# EAGLE library part AS-ITM-00162 (library tinycircuits)
IC REG BOOST 12V 0.12A 8SOIC
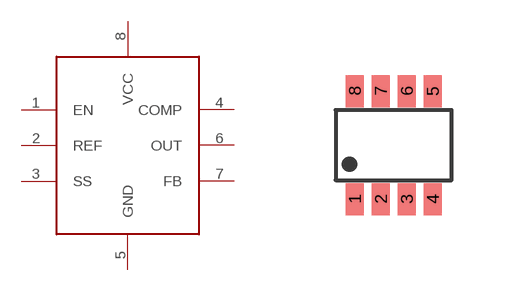
[diagram p73: symbol with the pads of R-PDSO-G8; footprint R-PDSO-G8]

Designator prefix -

## AS-ITM-00162 (PARTNO: AS-ITM-00162; VALUE: TPS6734IDR)  [R-PDSO-G8]
1  EN
2  REF
3  SS
4  COMP
5  GND
6  OUT
7  FB
8  VCC

## Footprint R-PDSO-G8 (pad centres in mm)
smd 0.45 x 0.8: 1 -0.92,-1.27; 2 -0.27,-1.27; 3 0.38,-1.27; 4 1.03,-1.27; 5 1.03,1.43; 6 0.38,1.43; 7 -0.27,1.43; 8 -0.92,1.43